# Altium footprint library RAK811 Package File.PcbLib: 1 footprints
Each footprint in its own frame and in the unit in brackets; x right, y up, seen from the top. Pads: shape width x height; smd on the part's side, far side on the other; paste and mask are expansions set on the pad; w line width, h text height; cw(c..) or ccw(c..) is an arc to the next point about the centre after c.
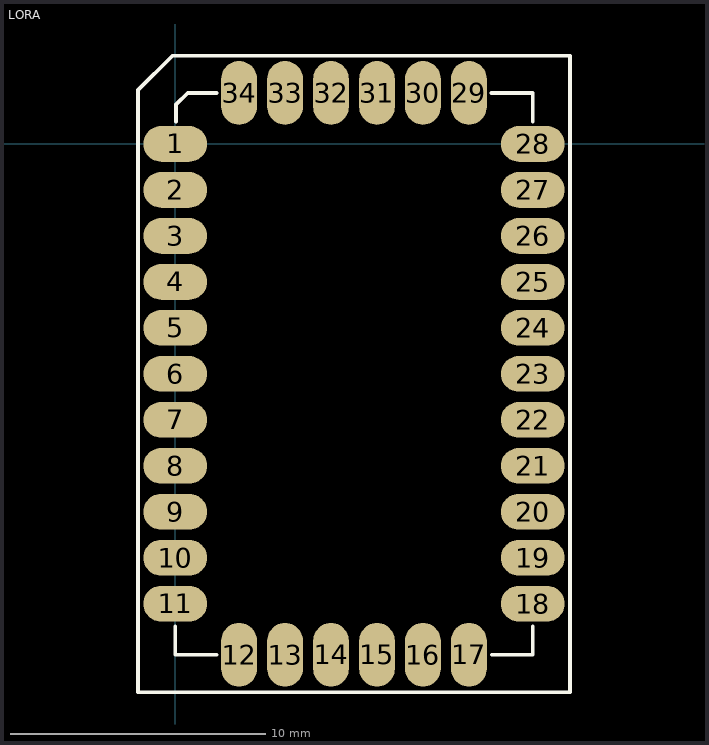
[diagram p0: the footprint, top view; thin cyan lines are the x and y axes]

## LORA [mm]
pads (34):
  oval 2.5x1.4 smd: 1(0,0) 2(0,-1.8) 3(0,-3.6) 4(0,-5.4) 5(0,-7.2) 6(0,-9) 7(0,-10.8) 8(0,-12.6) 9(0,-14.4) 10(0,-16.2) 11(0,-18) 18(14,-18) 19(14,-16.2) 20(14,-14.4) 21(14,-12.6) 22(14,-10.8) 23(14,-9) 24(14,-7.2) 25(14,-5.4) 26(14,-3.6) 27(14,-1.8) 28(14,0)
  oval 1.4x2.5 smd: 12(2.5,-20) 13(4.3,-20) 14(6.1,-20) 15(7.9,-20) 16(9.7,-20) 17(11.5,-20) 29(11.5,2) 30(9.7,2) 31(7.9,2) 32(6.1,2) 33(4.3,2) 34(2.5,2)
Top Overlay:
  lines w0.15: 0,-18.889 0,-20 1.63,-20 ; 0.03,0.88 0.03,1.54 0.49,2 1.62,2 ; 12.38,1.999 14,1.999 14,0.88 ; 12.4,-20 14,-20 14,-18.889 ; 15.45,3.429 15.45,-21.463 -1.45,-21.463 -1.45,2.106 -0.106,3.45 15.45,3.45